# EAGLE library part L293DD (library l293dd)
PUSH-PULL 4 CHANNEL DRIVER
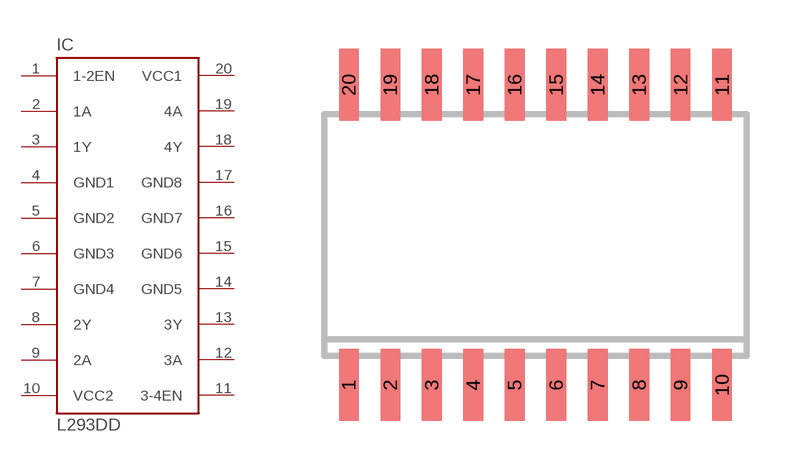
[diagram p2: symbol with the pads of SO20; footprint SO20]

Designator prefix IC

## L293DD"  [SO20]
1  1-2EN  in
2  1A  in
3  1Y  out
4  GND1  pwr
5  GND2  pwr
6  GND3  pwr
7  GND4  pwr
8  2Y  out
9  2A  in
10  VCC2  pwr
11  3-4EN  in
12  3A  in
13  3Y  out
14  GND5  pwr
15  GND6  pwr
16  GND7  pwr
17  GND8  pwr
18  4Y  out
19  4A  in
20  VCC1  pwr

## Footprint SO20 (pad centres in mm)
SMALL OUTLINE INTEGRATED CIRCUIT wide body 7.5 mm/JEDEC MS-013AC
smd 0.6 x 2.2: 1 -5.715,-4.6; 2 -4.445,-4.6; 3 -3.175,-4.6; 4 -1.905,-4.6; 5 -0.635,-4.6; 6 0.635,-4.6; 7 1.905,-4.6; 8 3.175,-4.6; 9 4.445,-4.6; 10 5.715,-4.6; 11 5.715,4.6; 12 4.445,4.6; 13 3.175,4.6; 14 1.905,4.6; 15 0.635,4.6; 16 -0.635,4.6; 17 -1.905,4.6; 18 -3.175,4.6; 19 -4.445,4.6; 20 -5.715,4.6